# Altium footprint library Leaded.PcbLib: 147 footprints (part 3 of 10)
Each footprint in its own frame and in the unit in brackets; x right, y up, seen from the top. Pads: shape width x height; smd on the part's side, far side on the other; paste and mask are expansions set on the pad; w line width, h text height; cw(c..) or ccw(c..) is an arc to the next point about the centre after c.
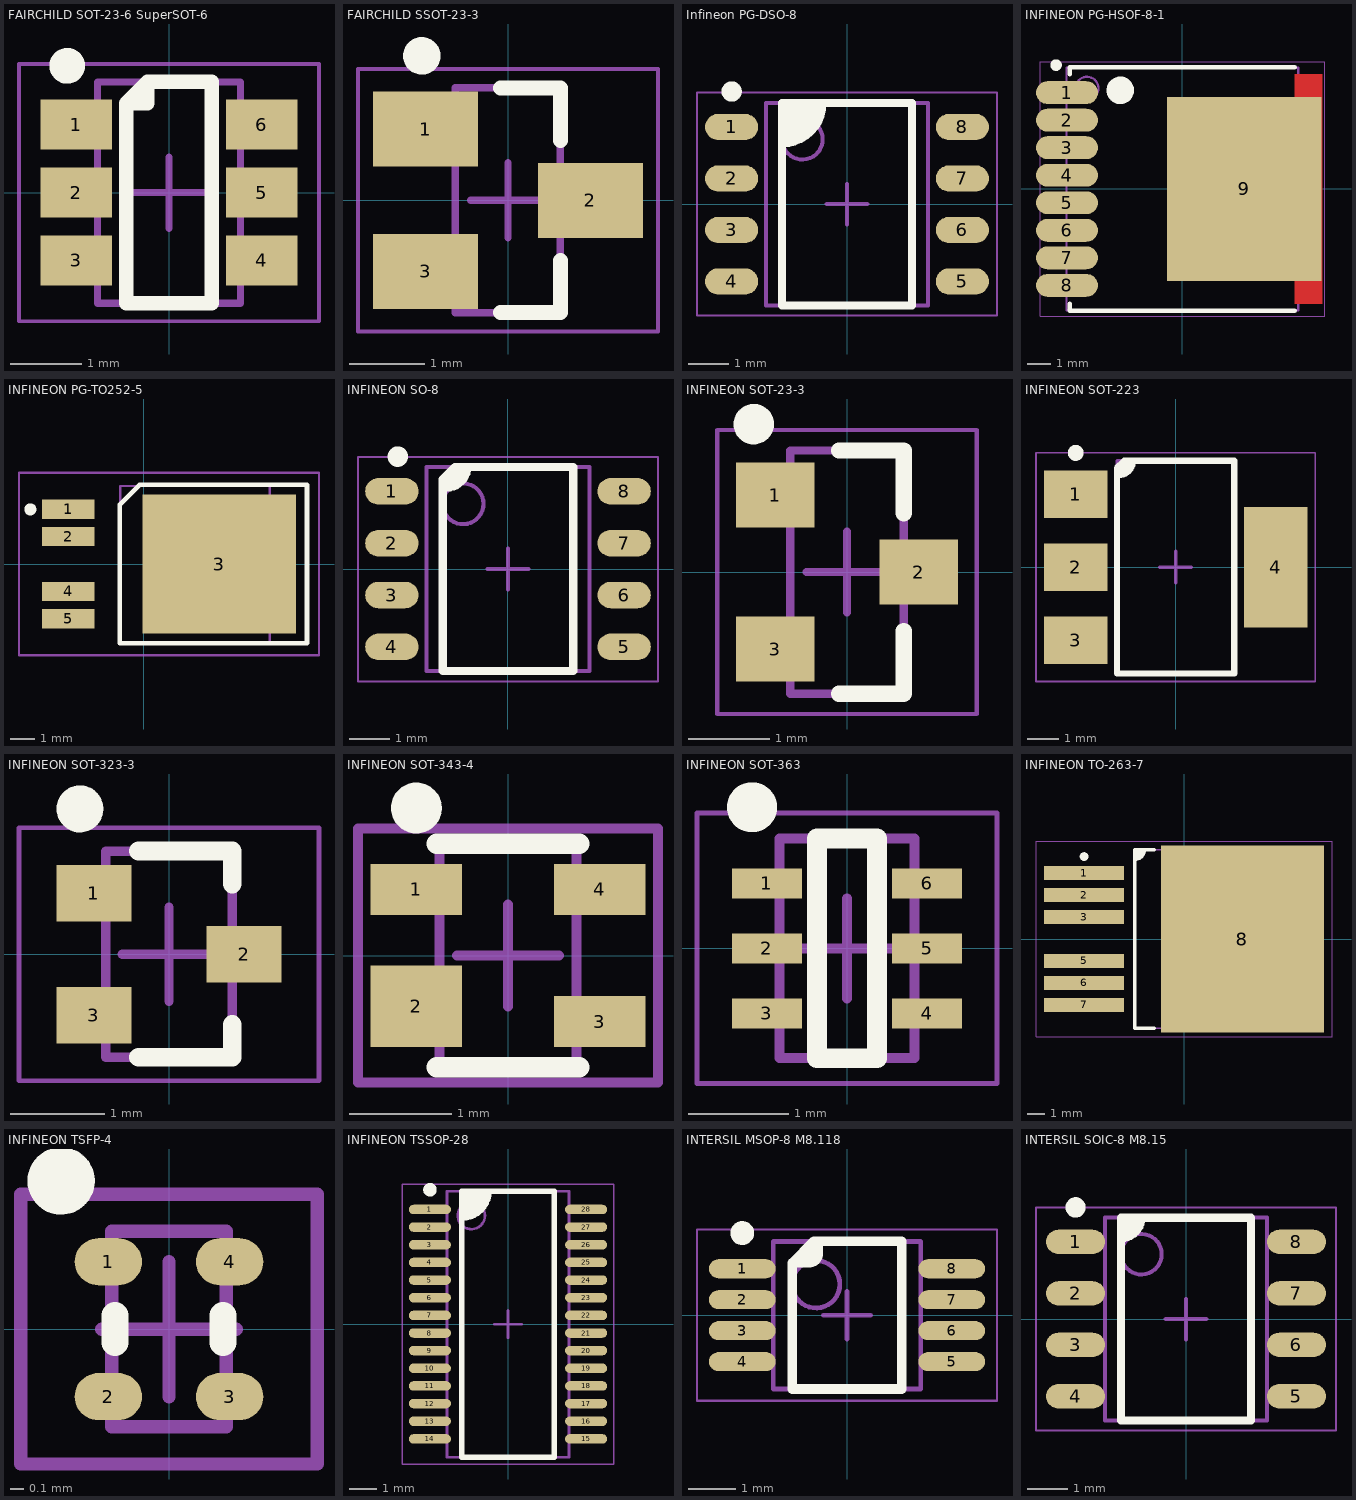
[diagram p2: the footprints below, top view; thin cyan lines are the x and y axes]

## FAIRCHILD SOT-23-6 SuperSOT-6 [mm] "SOT23, 6-Leads, Body 2.9x1.6mm, Pitch 0.95mm, IPC Medium Density"
height 1.1
pads (6):
  rect 1x0.7 smd: 1(-1.3,0.95) 2(-1.3,0) 3(-1.3,-0.95) 4(1.3,-0.95) 5(1.3,0) 6(1.3,0.95)
Top Overlay:
  circle w0.25: c-1.425,1.775 r0.125
  lines w0.2: -0.6,1.25 -0.3,1.55 ; -0.6,1.25 -0.6,-1.55 0.6,-1.55 0.6,1.55 -0.3,1.55 ; -0.6,1.25 -0.3,1.25 -0.3,1.55
Top Component Outline:
  lines w0.1: -1,-1.55 1,-1.55 1,1.55 -1,1.55 -1,-1.55
Top Courtyard:
  lines w0.05: -2.1,-1.8 2.1,-1.8 2.1,1.8 -2.1,1.8 -2.1,-1.8
  lines w0.1: -0.5,0 0.5,0 ; 0,-0.5 0,0.5
3D body "sot-23-6-fairchild.STEP": height 1.45, standoff 0, extent -1.46,-1.45 1.461,1.45

## FAIRCHILD SSOT-23-3 [mm] "SOT23, 3-Leads, Body 2.90x2.40mm, Pitch 0.95mm, IPC Medium Density"
height 1.35
pads (3):
  rect 1.4x1 smd: 1(-1.1,0.95) 2(1.1,0) 3(-1.1,-0.95)
Top Overlay:
  circle w0.25: c-1.15,1.925 r0.125
  lines w0.2: -0.1,-1.5 0.7,-1.5 0.7,-0.8 ; -0.1,1.5 0.7,1.5 0.7,0.8
Top Component Outline:
  lines w0.1: -0.7,-1.5 -0.7,1.5 0.7,1.5 0.7,-1.5 -0.7,-1.5
Top Courtyard:
  lines w0.05: -2,-1.75 -2,1.75 2,1.75 2,-1.75 -2,-1.75
  lines w0.1: -0.5,0 0.5,0 ; 0,-0.5 0,0.5
3D body "sot-23-3-fairchild-supersot.STEP": height 1, standoff 0, extent -1.265,-1.46 1.265,1.46

## Infineon PG-DSO-8 [mm]
height 1.75
pads (8):
  oval 1.31x0.65 smd: 1(-2.845,1.905) 2(-2.845,0.635) 3(-2.845,-0.635) 4(-2.845,-1.905) 5(2.845,-1.905) 6(2.845,-0.635) 7(2.845,0.635) 8(2.845,1.905)
Top Overlay:
  circle w0.25: c-2.845,2.78 r0.125
  region: -1.6,2.5 -0.6,2.5 -0.6,2.1 -1.2,1.5 -1.6,1.5
  lines w0.2: -1.6,1.5 ccw(c-1.6,2.5) -0.6,2.5 ; -1.6,-2.5 -1.6,2.5 1.6,2.5 1.6,-2.5 -1.6,-2.5
Top Component Outline:
  circle w0.1: c-1.1,1.6 r0.5
  lines w0.1: -2,-2.5 -2,2.5 2,2.5 2,-2.5 -2,-2.5
Top Courtyard:
  lines w0.05: -3.7,-2.75 -3.7,2.75 3.7,2.75 3.7,-2.75 -3.7,-2.75
  lines w0.1: -0.5,0 0.5,0 ; 0,-0.5 0,0.5
3D body "Infineon PG-DSO-8.STEP": height 1.8, standoff 0.01, extent -3.036,-2.45 3.036,2.45

## INFINEON PG-HSOF-8-1 [mm] "PG-HSOF, 9-Leads, Body 10.58x11.68mm, Pitch 1.20mm, IPC Medium Density"
height 2.4
pads (9):
  oval 2.7x1 smd: 1(-5.025,4.2) 2(-5.025,3) 3(-5.025,1.8) 4(-5.025,0.6) 5(-5.025,-0.6) 6(-5.025,-1.8) 7(-5.025,-3) 8(-5.025,-4.2)
  rect 6.75x8 smd: 9(2.7,0)
Top Layer:
  region: 4.9,5 6.1,5 6.1,-5 4.9,-5
Top Overlay:
  circle w0.25: c-5.5,5.4 r0.125
  circle w0.6: c-2.7,4.3 r0.3
  lines w0.2: -4.9,-5 -4.9,-5.3 4.9,-5.3 ; -4.9,5 -4.9,5.3 4.9,5.3
Top Component Outline:
  circle w0.1: c-4.15,4.39 r0.5
  lines w0.1: -5.05,-5.29 -5.05,5.29 5.05,5.29 5.05,-5.29 -5.05,-5.29
Top Courtyard:
  lines w0.05: -6.2,-5.55 -6.2,5.55 6.2,5.55 6.2,-5.55 -6.2,-5.55
  lines w0.1: -0.5,0 0.5,0 ; 0,-0.5 0,0.5
3D body "PG-HSOF-8-1.STEP": height 2.3, standoff 0, extent -5.815,-4.95 5.915,4.95

## INFINEON PG-TO252-5 [mm]
pads (5):
  rect 2.2x0.8 smd: 1(-3.15,2.28) 2(-3.15,1.14) 4(-3.15,-1.14) 5(-3.15,-2.28)
  rect 6.4x5.8 smd: 3(3.15,0)
Top Overlay:
  circle w0.25: c-4.725,2.275 r0.125
  lines w0.2: -1,-3.3 -1,2.475 -0.175,3.3 6.8,3.3 6.8,-3.3 -1,-3.3
Top Component Outline:
  lines w0.1: -0.98,-3.25 5.24,-3.25 5.24,3.25 -0.98,3.25 -0.98,-3.25
Top Courtyard:
  lines w0.1: -5.2,-3.8 7.3,-3.8 7.3,3.8 -5.2,3.8 -5.2,-3.8
3D body "INFINEON TO263-5S.stp": height 2.4, standoff -0.01, extent -4.125,-3.425 6.075,3.375

## INFINEON SO-8 [mm] "SOIC, 8-Leads, Body 4.90x3.90mm, Pitch 1.27mm, IPC Medium Density"
height 1.75
pads (8):
  oval 1.31x0.65 smd: 1(-2.845,1.905) 2(-2.845,0.635) 3(-2.845,-0.635) 4(-2.845,-1.905) 5(2.845,-1.905) 6(2.845,-0.635) 7(2.845,0.635) 8(2.845,1.905)
Top Overlay:
  circle w0.25: c-2.7,2.755 r0.125
  region: -1.3,2.5 -1,2.5 -1,2.401 -1.076,2.217 -1.217,2.076 -1.401,2 -1.5,2 -1.6,2 -1.6,2.2
  lines w0.2: -1.6,2 -1.5,2 ccw(c-1.5,2.5) -1,2.5 ; -1.6,-2.5 1.6,-2.5 1.6,2.5 -1.3,2.5 -1.6,2.2 -1.6,-2.5
Top Component Outline:
  circle w0.1: c-1.1,1.6 r0.5
  lines w0.1: -2,-2.5 -2,2.5 2,2.5 2,-2.5 -2,-2.5
Top Courtyard:
  lines w0.05: -3.675,-2.75 -3.675,2.75 3.675,2.75 3.675,-2.75 -3.675,-2.75
  lines w0.1: -0.5,0 0.5,0 ; 0,-0.5 0,0.5
3D body "SO-8.STEP": height 1.5, standoff 0, extent -3.014,-2.45 3.014,2.45

## INFINEON SOT-23-3 [mm] "SOT23, 3-Leads, Body 2.90x2.40mm, Pitch 0.95mm, IPC Medium Density"
height 1.35
pads (3):
  rect 0.972x0.802 smd: 1(-0.885,0.95) 2(0.885,0) 3(-0.885,-0.95)
Top Overlay:
  circle w0.25: c-1.15,1.825 r0.125
  lines w0.2: -0.1,-1.5 0.7,-1.5 0.7,-0.725 ; -0.1,1.5 0.7,1.5 0.7,0.725
Top Component Outline:
  lines w0.1: -0.7,-1.5 0.7,-1.5 0.7,1.5 -0.7,1.5 -0.7,-1.5
Top Courtyard:
  lines w0.05: -1.6,-1.75 1.6,-1.75 1.6,1.75 -1.6,1.75 -1.6,-1.75
  lines w0.1: -0.5,0 0.5,0 ; 0,-0.5 0,0.5
3D body "sot-23-3-infineon.STEP": height 1, standoff 0, extent -1.16,-1.45 1.16,1.45

## INFINEON SOT-223 [mm] "SOT223, 4-Leads, Body 6.50x7.00mm (avg), Pitch 2.30mm, IPC Medium Density"
height 1.8
pads (4):
  rect 2x1.5 smd: 1(-3.15,2.3) 2(-3.15,0) 3(-3.15,-2.3)
  rect 2x3.8 smd: 4(3.15,0)
Top Overlay:
  circle w0.25: c-3.15,3.6 r0.125
  region: -1.65,3.275 -1.35,3.35 -1.35,3.2 -1.65,2.9 -1.85,2.9
  lines w0.2: -1.85,2.9 -1.8,2.9 ccw(c-1.8,3.35) -1.35,3.35 ; -1.85,-3.35 1.85,-3.35 1.85,3.35 -1.625,3.35 -1.85,3.125 -1.85,-3.35
Top Component Outline:
  lines w0.1: -1.85,-3.35 -1.85,3.35 1.85,3.35 1.85,-3.35 -1.85,-3.35
Top Courtyard:
  lines w0.05: -4.4,-3.6 -4.4,3.6 4.4,3.6 4.4,-3.6 -4.4,-3.6
  lines w0.1: -0.5,0 0.5,0 ; 0,-0.5 0,0.5
3D body "SOT-223.STEP": height 1.8, standoff 0, extent -3.516,-3.25 3.5,3.25

## INFINEON SOT-323-3 [mm] "SOT323, 3-Leads, Body 2.00x2.10mm, Pitch 0.65mm, IPC Medium Density"
height 1
pads (3):
  rect 0.8x0.6 smd: 1(-0.8,0.65) 2(0.8,0) 3(-0.8,-0.65)
Top Overlay:
  circle w0.25: c-0.95,1.55 r0.125
  lines w0.2: -0.325,-1.1 0.675,-1.1 0.675,-0.75 ; -0.325,1.1 0.675,1.1 0.675,0.75
Top Component Outline:
  lines w0.1: -0.675,-1.1 0.675,-1.1 0.675,1.1 -0.675,1.1 -0.675,-1.1
Top Courtyard:
  lines w0.05: -1.6,-1.35 1.6,-1.35 1.6,1.35 -1.6,1.35 -1.6,-1.35
  lines w0.1: -0.5,0 0.5,0 ; 0,-0.5 0,0.5
3D body "sot-323.STEP": height 1, standoff 0, extent -1.058,-1 1.059,1

## INFINEON SOT-343-4 [mm] "SOT343, 4-Leads, Body 2.3x2.4mm (max), Pitch 1.30mm, IPC High Density"
height 1.2
pads (4):
  rect 0.9x0.5 smd: 1(-0.9,0.65) 3(0.9,-0.65) 4(0.9,0.65)
  rect 0.9x0.8 smd: 2(-0.9,-0.5)
Top Overlay:
  circle w0.25: c-0.9,1.45 r0.125
  lines w0.2: -0.7,-1.1 0.7,-1.1 ; -0.7,1.1 0.7,1.1
Top Component Outline:
  lines w0.1: -0.675,-1.125 0.675,-1.125 0.675,1.125 -0.675,1.125 -0.675,-1.125
Top Courtyard:
  lines w0.1: -0.5,0 0.5,0 ; 0,-0.5 0,0.5 ; -1.475,-1.25 1.475,-1.25 1.475,1.25 -1.475,1.25 -1.475,-1.25
3D body "Infineon SOT343-4 rf.STEP": height 1, standoff 0, extent -1.1,-1.1 1.1,1.1

## INFINEON SOT-363 [mm] "SOT363, 6-Leads, Body 2.00x2.10mm, Pitch 0.65mm, IPC Medium Density"
height 1.1
pads (6):
  rect 0.7x0.3 smd: 1(-0.8,0.65) 2(-0.8,0) 3(-0.8,-0.65) 4(0.8,-0.65) 5(0.8,0) 6(0.8,0.65)
Top Overlay:
  circle w0.25: c-0.95,1.41 r0.125
  lines w0.2: -0.3,-1.1 -0.3,1.1 0.3,1.1 0.3,-1.1 -0.3,-1.1
Top Component Outline:
  lines w0.1: -0.675,-1.1 0.675,-1.1 0.675,1.1 -0.675,1.1 -0.675,-1.1
Top Courtyard:
  lines w0.05: -1.5,-1.35 1.5,-1.35 1.5,1.35 -1.5,1.35 -1.5,-1.35
  lines w0.1: -0.5,0 0.5,0 ; 0,-0.5 0,0.5
3D body "SOT-363.STEP": height 1.05, standoff 0, extent -1.058,-1.1 1.058,1.1

## INFINEON TO-263-7 [mm] "D2-PAK, 7-Pads, Body 7.82x8.52mm (max), IPC Medium Density"
height 4.57
pads (7):
  rect 4.6x0.8 smd: 1(-5.775,3.81) 2(-5.775,2.54) 3(-5.775,1.27) 5(-5.775,-1.27) 6(-5.775,-2.54) 7(-5.775,-3.81)
  rect 9.4x10.8 smd: 8(3.375,0)
Top Overlay:
  circle w0.25: c-5.775,4.76 r0.125
  region: -2.85,5.15 -2.288,5.15 -2.288,5.041 -2.371,4.838 -2.526,4.684 -2.728,4.6 -2.838,4.6 -2.85,4.6
  lines w0.2: -2.85,4.6 -2.838,4.6 ccw(c-2.838,5.15) -2.288,5.15 ; -1.725,-5.15 -2.85,-5.15 -2.85,5.15 -1.725,5.15
Top Component Outline:
  lines w0.1: -2.85,-5.15 -2.85,5.15 6.6,5.15 6.6,-5.15 -2.85,-5.15
Top Courtyard:
  lines w0.05: -8.55,-5.65 -8.55,5.65 8.55,5.65 8.55,-5.65 -8.55,-5.65
  lines w0.1: -0.5,0 0.5,0 ; 0,-0.5 0,0.5
3D body "TO-263-7.STEP": height 4.54, standoff 0, extent -7.62,-5.08 7.63,5.08

## INFINEON TSFP-4 [mm] "TSFP, 4-Leads, Body 1.5x0.9mm (max), Pitch 1.00mm, IPC Medium Density"
pads (4):
  oval 0.5x0.35 smd: 1(-0.45,0.5) 2(-0.45,-0.5) 3(0.45,-0.5) 4(0.45,0.5)
Top Overlay:
  circle w0.25: c-0.8,1.1 r0.125
  lines w0.2: -0.4,-0.1 -0.4,0.1 ; 0.4,-0.1 0.4,0.1
Top Component Outline:
  lines w0.1: -0.425,-0.725 -0.425,0.725 0.425,0.725 0.425,-0.725 -0.425,-0.725
Top Courtyard:
  lines w0.1: -0.5,0 0.5,0 ; 0,-0.5 0,0.5 ; -1.1,-1 -1.1,1 1.1,1 1.1,-1 -1.1,-1
3D body "TSFP-4.STEP": height 0.54, standoff 0, extent -0.6,-0.7 0.6,0.7

## INFINEON TSSOP-28 [mm] "SOP, 28-Leads, Body 9.7x4.4mm, Pitch 0.65mm, IPC Medium Density"
height 1.2
pads (28):
  oval 1.55x0.35 smd: 1(-2.875,4.225) 2(-2.875,3.575) 3(-2.875,2.925) 4(-2.875,2.275) 5(-2.875,1.625) 6(-2.875,0.975) 7(-2.875,0.325) 8(-2.875,-0.325) 9(-2.875,-0.975) 10(-2.875,-1.625) 11(-2.875,-2.275) 12(-2.875,-2.925) 13(-2.875,-3.575) 14(-2.875,-4.225) 15(2.875,-4.225) 16(2.875,-3.575) 17(2.875,-2.925) 18(2.875,-2.275) 19(2.875,-1.625) 20(2.875,-0.975) 21(2.875,-0.325) 22(2.875,0.325) 23(2.875,0.975) 24(2.875,1.625) 25(2.875,2.275) 26(2.875,2.925) 27(2.875,3.575) 28(2.875,4.225)
Top Overlay:
  circle w0.25: c-2.875,4.95 r0.125
  region: -1.7,3.9 -1.3,3.9 -0.7,4.5 -0.7,4.9 -1.7,4.9
  lines w0.2: -1.7,3.9 ccw(c-1.7,4.9) -0.7,4.9 ; -1.7,-4.9 1.7,-4.9 1.7,4.9 -1.7,4.9 -1.7,-4.9
Top Component Outline:
  circle w0.1: c-1.35,4 r0.5
  lines w0.1: -2.25,-4.9 2.25,-4.9 2.25,4.9 -2.25,4.9 -2.25,-4.9
Top Courtyard:
  lines w0.05: -3.9,-5.15 3.9,-5.15 3.9,5.15 -3.9,5.15 -3.9,-5.15
  lines w0.1: -0.5,0 0.5,0 ; 0,-0.5 0,0.5
3D body "TSSOP-28.STEP": height 1.2, standoff 0, extent -3.21,-4.85 3.211,4.85

## INTERSIL MSOP-8 M8.118 [mm] "MSOP, 8-Leads, Body 3.00x3.00mm, Pitch 0.65mm, IPC Medium Density"
height 0.95
pads (8):
  oval 1.4x0.4 smd: 1(-2.2,0.975) 2(-2.2,0.325) 3(-2.2,-0.325) 4(-2.2,-0.975) 5(2.2,-0.975) 6(2.2,-0.325) 7(2.2,0.325) 8(2.2,0.975)
Top Overlay:
  circle w0.25: c-2.2,1.725 r0.125
  region: -0.7,1.55 -1.1,1.15 -0.85,1.15 -0.8,1.1 -0.6,1.3 -0.6,1.55
  lines w0.2: -1.15,1.1 -0.7,1.55 ; -1.15,1.1 -1.15,-1.55 1.15,-1.55 1.15,1.55 -0.7,1.55 ; -1.15,1.1 -0.8,1.1 ccw(c-0.8,1.3) -0.6,1.3 -0.6,1.45 ccw(c-0.7,1.45) -0.7,1.55
Top Component Outline:
  circle w0.1: c-0.65,0.65 r0.5
  lines w0.1: -1.55,-1.55 -1.55,1.55 1.55,1.55 1.55,-1.55 -1.55,-1.55
Top Courtyard:
  lines w0.05: -3.15,-1.8 -3.15,1.8 3.15,1.8 3.15,-1.8 -3.15,-1.8
  lines w0.1: -0.5,0 0.5,0 ; 0,-0.5 0,0.5
3D body "MSOP-8.STEP": height 1.1, standoff 0, extent -2.46,-1.5 2.46,1.5

## INTERSIL SOIC-8 M8.15 [mm] "SOIC, 8-Leads, Body 4.90x3.90mm, Pitch 1.27mm, IPC Medium Density"
height 1.75
pads (8):
  oval 1.45x0.6 smd: 1(-2.725,1.905) 2(-2.725,0.635) 3(-2.725,-0.635) 4(-2.725,-1.905) 5(2.725,-1.905) 6(2.725,-0.635) 7(2.725,0.635) 8(2.725,1.905)
Top Overlay:
  circle w0.25: c-2.725,2.755 r0.125
  region: -1.6,2.5 -1.1,2.5 -1.1,2.3 -1.4,2 -1.6,2
  lines w0.2: -1.6,2 ccw(c-1.6,2.5) -1.1,2.5 ; -1.6,-2.5 1.6,-2.5 1.6,2.5 -1.6,2.5 -1.6,-2.5
Top Component Outline:
  circle w0.1: c-1.1,1.6 r0.5
  lines w0.1: -2,-2.5 2,-2.5 2,2.5 -2,2.5 -2,-2.5
Top Courtyard:
  lines w0.05: -3.7,-2.75 3.7,-2.75 3.7,2.75 -3.7,2.75 -3.7,-2.75
  lines w0.1: -0.5,0 0.5,0 ; 0,-0.5 0,0.5
3D body "SO-8.STEP": height 1.5, standoff 0, extent -3.014,-2.45 3.014,2.45